# Altium footprint library PCB - LEADLESS - QFN - ANALOG QFN-16 3x3MM.PcbLib: 1 footprints
Each footprint in its own frame and in the unit in brackets; x right, y up, seen from the top. Pads: shape width x height; smd on the part's side, far side on the other; paste and mask are expansions set on the pad; w line width, h text height; cw(c..) or ccw(c..) is an arc to the next point about the centre after c.
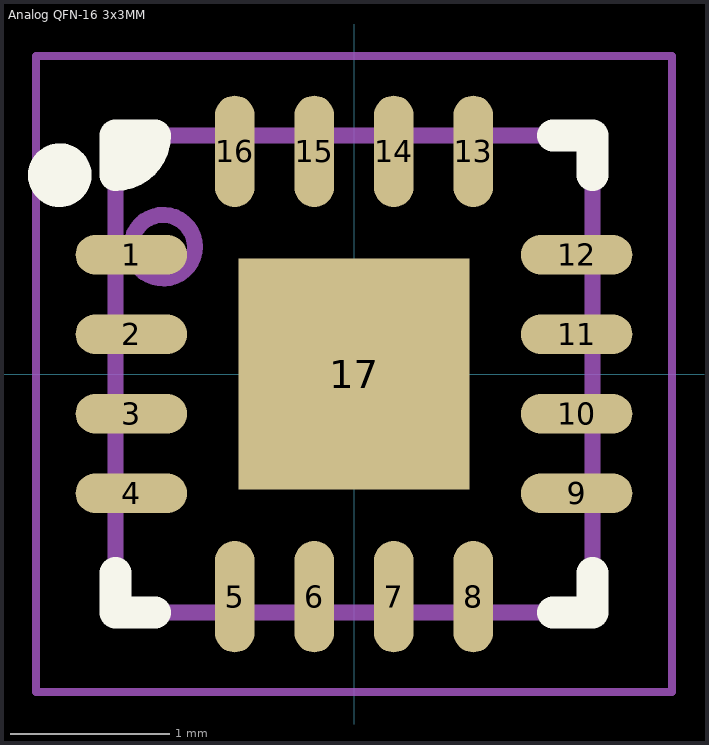
[diagram p0: the footprint, top view; thin cyan lines are the x and y axes]

## Analog QFN-16 3x3MM [mm] "16-QFN (3x3)  Package, 0.5mm Pitch, 3.00x3.00mm Body"
height 0.8
pads (17):
  oval 0.7x0.25 smd: 1(-1.4,0.75) 2(-1.4,0.25) 3(-1.4,-0.25) 4(-1.4,-0.75) 9(1.4,-0.75) 10(1.4,-0.25) 11(1.4,0.25) 12(1.4,0.75)
  oval 0.25x0.7 smd: 5(-0.75,-1.4) 6(-0.25,-1.4) 7(0.25,-1.4) 8(0.75,-1.4) 13(0.75,1.4) 14(0.25,1.4) 15(-0.25,1.4) 16(-0.75,1.4)
  rect 1.45x1.45 smd: 17(0,0)
Top Overlay:
  circle w0.2: c-1.85,1.25 r0.1
  region: -1.5,1.5 -1.25,1.5 -1.5,1.25
  lines w0.2: -1.5,-1.25 -1.5,-1.5 -1.25,-1.5 ; 1.25,-1.5 1.5,-1.5 1.5,-1.25 ; 1.25,1.5 1.5,1.5 ; 1.5,1.25 1.5,1.5 ; -1.5,1.25 ccw(c-1.5,1.5) -1.25,1.5 -1.5,1.5 -1.5,1.25 ; -1.5,1.25 -1.5,1.25 ; 1.5,1.5 1.5,1.5
Mechanical 13:
  circle w0.1: c-1.2,0.8 r0.2
  lines w0.1: -1.5,-1.5 1.5,-1.5 1.5,1.5 -1.5,1.5 -1.5,-1.5
Mechanical 15 (Mech15):
  lines w0.05: -2,-2 2,-2 2,2 -2,2 -2,-2
  lines w0.1: -0.5,0 0,0 ; 0,-0.5 0,0 ; 0,0.5 0,0 ; 0.5,0 0,0
3D body "Analog Devices - QFN-16 .step": height 0.8, standoff 0, extent -1.5,-1.5 1.5,1.5